# Altium integrated library Silicon Labs Isolation and Power.IntLib: 421 symbols (part 19 of 19)
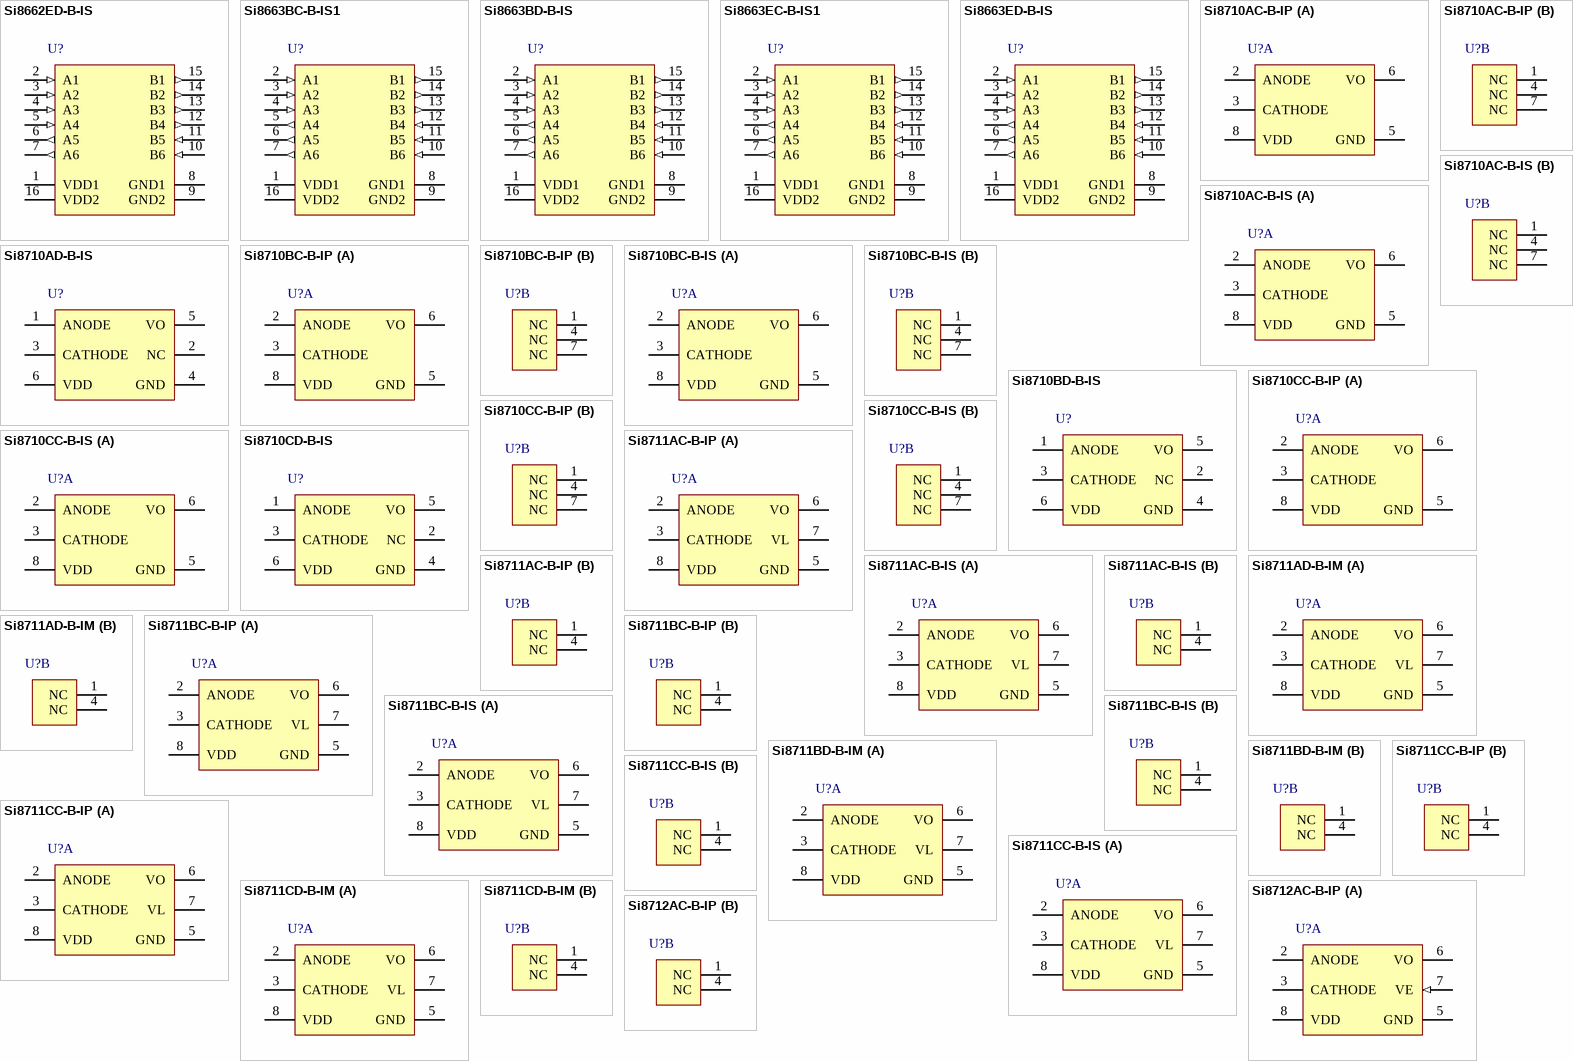
[diagram p32: symbols Si8662ED-B-IS to Si8712AC-B-IP]

## Si8712AC-B-IP
designator U?
LED Emulator Input, Open Collector Output Isolator, 15 Mbps, 3.75 kVRMS Isolation Rating, -40 to 125 degC, 8-pin SOP; Manufacturer: Silicon Labs; PartNumber: Si8712AC-B-IP; 10kV surge: TRUE; AEC-Q100: FALSE; Channel Type: Unidirectional; Isolation Rating (kV): 3.75; Maximum Data Rate (Mbps): 15; Maximum Propagation Delay (ns): 60; Sub-Family: Isolators; DatasheetVersion: Rev. 0.5; PackageReference: DIP8; PackageDescription: 8-Pin Dual In-Line Package, Body 9.65 x 6.35 mm, Pitch 2.54 mm; Supplier 1: Digi-Key; Supplier Part Number 1: 336-2368-ND; Supplier 2: Mouser; Supplier Part Number 2: 634-SI8712AC-B-IP; Enable Control: TRUE; Mounting Technology: Surface Mount; ComponentLink1Description: Manufacturer URL; ComponentLink1URL: http://www.silabs.com/; ComponentLink2Description: Datasheet; ComponentLink2URL: http://www.silabs.com/Support%20Documents/TechnicalDocs/Si87xx.pdf; ComponentLink3Description: Package Specification; ComponentLink3URL: http://www.silabs.com/Support%20Documents/TechnicalDocs/Si826x.pdf
footprint SLAB-DIP8_N (SOP, 8-Leads, Body 9.9x6.6mm, Pitch 2.54mm, IPC Medium Density)
footprint SLAB-DIP8_L (SOP, 8-Leads, Body 9.9x6.6mm, Pitch 2.54mm, IPC High Density)
footprint SLAB-DIP8_M (SOP, 8-Leads, Body 9.9x6.6mm, Pitch 2.54mm, IPC Low Density)
part A pins: 2 ANODE "Anode of LED emulator. VO follows the signal applied to this input with respect to the CATHODE input.", 3 CATHODE "Cathode of LED emulator. VO follows the signal applied to ANODE with respect to this input.", 5 GND (power) "External MOSFET source connection and ground reference for VDD. This terminal is typically connected to ground but may be tied to a negative or positive voltage.", 6 VO (oc) "Output signal.", 7 VE (in) "Output enable.", 8 VDD (power) "Output-side power supply input referenced to GND (30 V max)."
part B pins: 1 NC "No connect.", 4 NC "No connect."

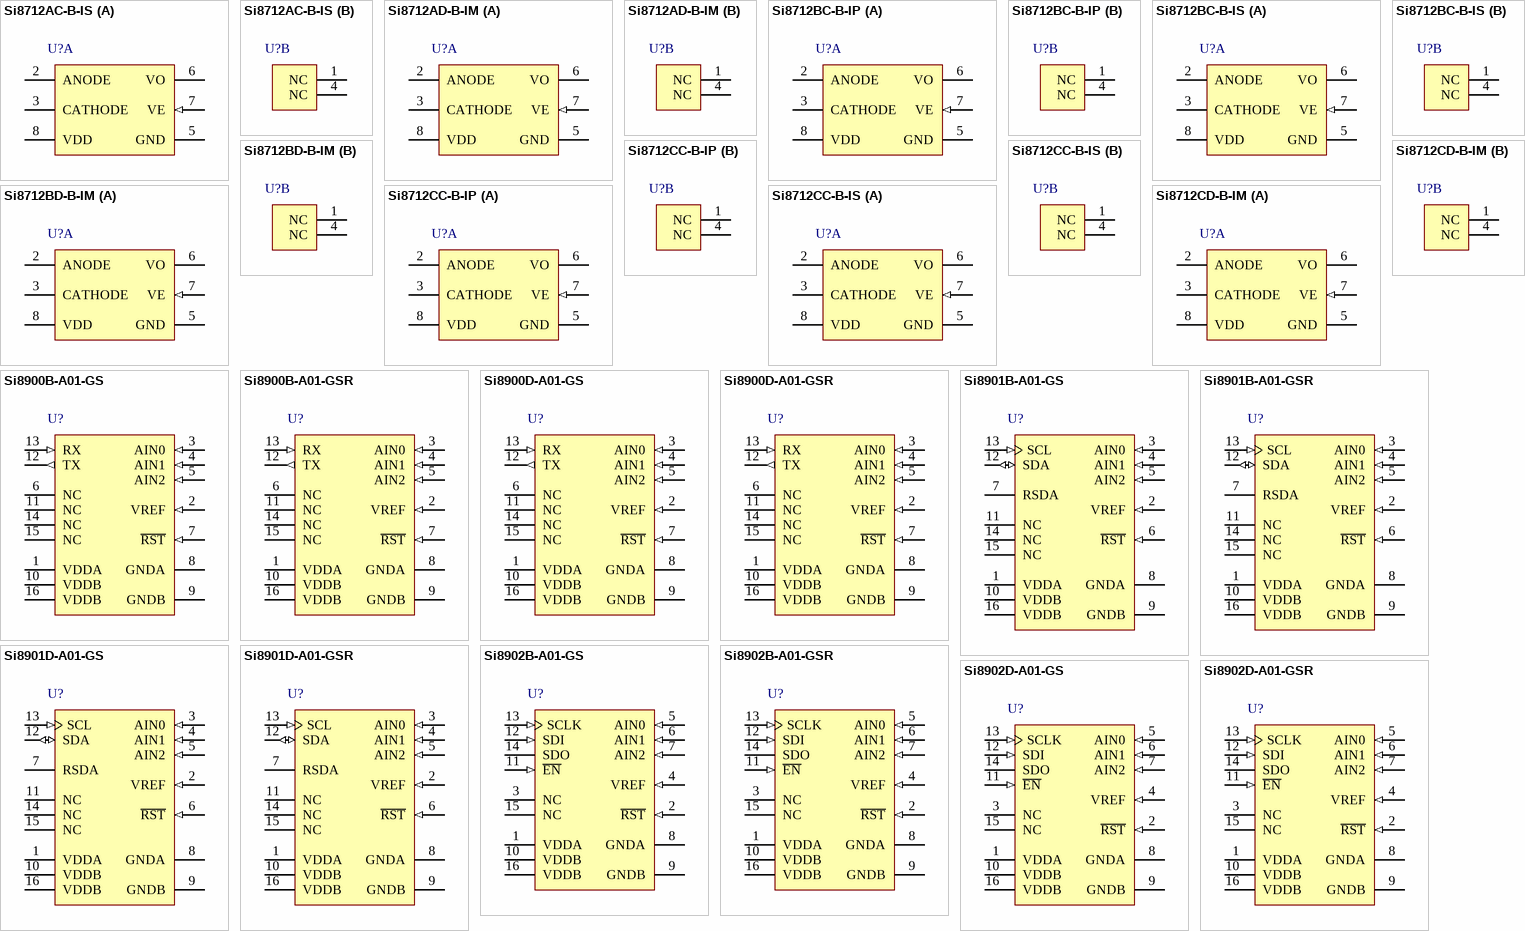
[diagram p14: symbols Si8712AC-B-IS to Si8902D-A01-GSR]

## Si8712AC-B-IS
designator U?
LED Emulator Input, Open Collector Output Isolator, 15 Mbps, 3.75 kVRMS Isolation Rating, -40 to 125 degC, 8-pin SOIC; Manufacturer: Silicon Labs; PartNumber: Si8712AC-B-IS; 10kV surge: TRUE; AEC-Q100: FALSE; Channel Type: Unidirectional; Isolation Rating (kV): 3.75; Maximum Data Rate (Mbps): 15; Maximum Propagation Delay (ns): 60; Sub-Family: Isolators; DatasheetVersion: Rev. 0.5; PackageReference: SOIC-8-NB; PackageDescription: 8-Pin Narrow Body Plastic Small Outline, Body 4.9 x 3.9 mm, Pitch 1.27 mm; Supplier 1: Digi-Key; Supplier Part Number 1: 336-2383-ND; Supplier 2: Mouser; Supplier Part Number 2: 634-SI8712AC-B-IS; Enable Control: TRUE; Mounting Technology: Surface Mount; ComponentLink1Description: Manufacturer URL; ComponentLink1URL: http://www.silabs.com/; ComponentLink2Description: Datasheet; ComponentLink2URL: http://www.silabs.com/Support%20Documents/TechnicalDocs/Si87xx.pdf; ComponentLink3Description: Package Specification; ComponentLink3URL: http://www.silabs.com/Support%20Documents/TechnicalDocs/Si8220-21.pdf
footprint SLAB-SOIC-8-NB_N (SOIC, 8-Leads, Body 5x4mm, Pitch 1.27mm, IPC Medium Density)
footprint SLAB-SOIC-8-NB_L (SOIC, 8-Leads, Body 5x4mm, Pitch 1.27mm, IPC High Density)
footprint SLAB-SOIC-8-NB_M (SOIC, 8-Leads, Body 5x4mm, Pitch 1.27mm, IPC Low Density)
part A pins: 2 ANODE "Anode of LED emulator. VO follows the signal applied to this input with respect to the CATHODE input.", 3 CATHODE "Cathode of LED emulator. VO follows the signal applied to ANODE with respect to this input.", 5 GND (power) "External MOSFET source connection and ground reference for VDD. This terminal is typically connected to ground but may be tied to a negative or positive voltage.", 6 VO (oc) "Output signal.", 7 VE (in) "Output enable.", 8 VDD (power) "Output-side power supply input referenced to GND (30 V max)."
part B pins: 1 NC "No connect.", 4 NC "No connect."

## Si8712AD-B-IM
designator U?
LED Emulator Input, Open Collector Output Isolator, 15 Mbps, 5 kVRMS Isolation Rating, -40 to 125 degC, 8-pin LGA; Manufacturer: Silicon Labs; PartNumber: Si8712AD-B-IM; 10kV surge: TRUE; AEC-Q100: FALSE; Channel Type: Unidirectional; Isolation Rating (kV): 5; Maximum Data Rate (Mbps): 15; Maximum Propagation Delay (ns): 60; Sub-Family: Isolators; DatasheetVersion: Rev. 0.5; PackageReference: LGA8; PackageDescription: 8-Pin Land Grid Array, Body 10 x 12.5 mm, Pitch 2.54 mm; Supplier 1: Digi-Key; Supplier Part Number 1: 336-2372-ND; Supplier 2: Mouser; Supplier Part Number 2: 634-SI8712AD-B-IM; Enable Control: TRUE; Mounting Technology: Surface Mount; Code_IPC: J-STD-020; ComponentLink1Description: Manufacturer URL; ComponentLink1URL: http://www.silabs.com/; ComponentLink2Description: Datasheet; ComponentLink2URL: http://www.silabs.com/Support%20Documents/TechnicalDocs/Si87xx.pdf; ComponentLink3Description: Package Specification; ComponentLink3URL: http://www.silabs.com/Support%20Documents/TechnicalDocs/Si826x.pdf
footprint SLAB-LGA8_V (LGA, 8-Leads, Body 12.5x10mm, Pitch 2.54mm)
part A pins: 2 ANODE "Anode of LED emulator. VO follows the signal applied to this input with respect to the CATHODE input.", 3 CATHODE "Cathode of LED emulator. VO follows the signal applied to ANODE with respect to this input.", 5 GND (power) "External MOSFET source connection and ground reference for VDD. This terminal is typically connected to ground but may be tied to a negative or positive voltage.", 6 VO (oc) "Output signal.", 7 VE (in) "Output enable.", 8 VDD (power) "Output-side power supply input referenced to GND (30 V max)."
part B pins: 1 NC "No connect.", 4 NC "No connect."

## Si8712BC-B-IP
designator U?
LED Emulator Input, Open Collector Output Isolator, 15 Mbps, 3.75 kVRMS Isolation Rating, -40 to 125 degC, 8-pin SOP; Manufacturer: Silicon Labs; PartNumber: Si8712BC-B-IP; 10kV surge: TRUE; AEC-Q100: FALSE; Channel Type: Unidirectional; Isolation Rating (kV): 3.75; Maximum Data Rate (Mbps): 15; Maximum Propagation Delay (ns): 60; Sub-Family: Isolators; DatasheetVersion: Rev. 0.5; PackageReference: DIP8; PackageDescription: 8-Pin Dual In-Line Package, Body 9.65 x 6.35 mm, Pitch 2.54 mm; Supplier 1: Digi-Key; Supplier Part Number 1: 336-2379-ND; Supplier 2: Mouser; Supplier Part Number 2: 634-SI8712BC-B-IP; Enable Control: TRUE; Mounting Technology: Surface Mount; ComponentLink1Description: Manufacturer URL; ComponentLink1URL: http://www.silabs.com/; ComponentLink2Description: Datasheet; ComponentLink2URL: http://www.silabs.com/Support%20Documents/TechnicalDocs/Si87xx.pdf; ComponentLink3Description: Package Specification; ComponentLink3URL: http://www.silabs.com/Support%20Documents/TechnicalDocs/Si826x.pdf
footprint SLAB-DIP8_N (SOP, 8-Leads, Body 9.9x6.6mm, Pitch 2.54mm, IPC Medium Density)
footprint SLAB-DIP8_L (SOP, 8-Leads, Body 9.9x6.6mm, Pitch 2.54mm, IPC High Density)
footprint SLAB-DIP8_M (SOP, 8-Leads, Body 9.9x6.6mm, Pitch 2.54mm, IPC Low Density)
part A pins: 2 ANODE "Anode of LED emulator. VO follows the signal applied to this input with respect to the CATHODE input.", 3 CATHODE "Cathode of LED emulator. VO follows the signal applied to ANODE with respect to this input.", 5 GND (power) "External MOSFET source connection and ground reference for VDD. This terminal is typically connected to ground but may be tied to a negative or positive voltage.", 6 VO (oc) "Output signal.", 7 VE (in) "Output enable.", 8 VDD (power) "Output-side power supply input referenced to GND (30 V max)."
part B pins: 1 NC "No connect.", 4 NC "No connect."

## Si8712BC-B-IS
designator U?
LED Emulator Input, Open Collector Output Isolator, 15 Mbps, 3.75 kVRMS Isolation Rating, -40 to 125 degC, 8-pin SOIC; Manufacturer: Silicon Labs; PartNumber: Si8712BC-B-IS; 10kV surge: TRUE; AEC-Q100: FALSE; Channel Type: Unidirectional; Isolation Rating (kV): 3.75; Maximum Data Rate (Mbps): 15; Maximum Propagation Delay (ns): 60; Sub-Family: Isolators; DatasheetVersion: Rev. 0.5; PackageReference: SOIC-8-NB; PackageDescription: 8-Pin Narrow Body Plastic Small Outline, Body 4.9 x 3.9 mm, Pitch 1.27 mm; Supplier 1: Digi-Key; Supplier Part Number 1: 336-2370-ND; Supplier 2: Mouser; Supplier Part Number 2: 634-SI8712BC-B-IS; Enable Control: TRUE; Mounting Technology: Surface Mount; ComponentLink1Description: Manufacturer URL; ComponentLink1URL: http://www.silabs.com/; ComponentLink2Description: Datasheet; ComponentLink2URL: http://www.silabs.com/Support%20Documents/TechnicalDocs/Si87xx.pdf; ComponentLink3Description: Package Specification; ComponentLink3URL: http://www.silabs.com/Support%20Documents/TechnicalDocs/Si8220-21.pdf
footprint SLAB-SOIC-8-NB_N (SOIC, 8-Leads, Body 5x4mm, Pitch 1.27mm, IPC Medium Density)
footprint SLAB-SOIC-8-NB_L (SOIC, 8-Leads, Body 5x4mm, Pitch 1.27mm, IPC High Density)
footprint SLAB-SOIC-8-NB_M (SOIC, 8-Leads, Body 5x4mm, Pitch 1.27mm, IPC Low Density)
part A pins: 2 ANODE "Anode of LED emulator. VO follows the signal applied to this input with respect to the CATHODE input.", 3 CATHODE "Cathode of LED emulator. VO follows the signal applied to ANODE with respect to this input.", 5 GND (power) "External MOSFET source connection and ground reference for VDD. This terminal is typically connected to ground but may be tied to a negative or positive voltage.", 6 VO (oc) "Output signal.", 7 VE (in) "Output enable.", 8 VDD (power) "Output-side power supply input referenced to GND (30 V max)."
part B pins: 1 NC "No connect.", 4 NC "No connect."

## Si8712BD-B-IM
designator U?
LED Emulator Input, Open Collector Output Isolator, 15 Mbps, 5 kVRMS Isolation Rating, -40 to 125 degC, 8-pin LGA; Manufacturer: Silicon Labs; PartNumber: Si8712BD-B-IM; 10kV surge: TRUE; AEC-Q100: FALSE; Channel Type: Unidirectional; Isolation Rating (kV): 5; Maximum Data Rate (Mbps): 15; Maximum Propagation Delay (ns): 60; Sub-Family: Isolators; DatasheetVersion: Rev. 0.5; PackageReference: LGA8; PackageDescription: 8-Pin Land Grid Array, Body 10 x 12.5 mm, Pitch 2.54 mm; Supplier 1: Digi-Key; Supplier Part Number 1: 336-2358-ND; Supplier 2: Mouser; Supplier Part Number 2: 634-SI8712BD-B-IM; Enable Control: TRUE; Mounting Technology: Surface Mount; Code_IPC: J-STD-020; ComponentLink1Description: Manufacturer URL; ComponentLink1URL: http://www.silabs.com/; ComponentLink2Description: Datasheet; ComponentLink2URL: http://www.silabs.com/Support%20Documents/TechnicalDocs/Si87xx.pdf; ComponentLink3Description: Package Specification; ComponentLink3URL: http://www.silabs.com/Support%20Documents/TechnicalDocs/Si826x.pdf
footprint SLAB-LGA8_V (LGA, 8-Leads, Body 12.5x10mm, Pitch 2.54mm)
part A pins: 2 ANODE "Anode of LED emulator. VO follows the signal applied to this input with respect to the CATHODE input.", 3 CATHODE "Cathode of LED emulator. VO follows the signal applied to ANODE with respect to this input.", 5 GND (power) "External MOSFET source connection and ground reference for VDD. This terminal is typically connected to ground but may be tied to a negative or positive voltage.", 6 VO (oc) "Output signal.", 7 VE (in) "Output enable.", 8 VDD (power) "Output-side power supply input referenced to GND (30 V max)."
part B pins: 1 NC "No connect.", 4 NC "No connect."

## Si8712CC-B-IP
designator U?
LED Emulator Input, Open Collector Output Isolator, 1 Mbps, 3.75 kVRMS Isolation Rating, -40 to 125 degC, 8-pin SOP; Manufacturer: Silicon Labs; PartNumber: Si8712CC-B-IP; 10kV surge: TRUE; AEC-Q100: FALSE; Channel Type: Unidirectional; Isolation Rating (kV): 3.75; Maximum Data Rate (Mbps): 1; Maximum Propagation Delay (ns): 60; Sub-Family: Isolators; DatasheetVersion: Rev. 0.5; PackageReference: DIP8; PackageDescription: 8-Pin Dual In-Line Package, Body 9.65 x 6.35 mm, Pitch 2.54 mm; Supplier 1: Digi-Key; Supplier Part Number 1: 336-2387-ND; Supplier 2: Mouser; Supplier Part Number 2: 634-SI8712CC-B-IP; Enable Control: TRUE; Mounting Technology: Surface Mount; ComponentLink1Description: Manufacturer URL; ComponentLink1URL: http://www.silabs.com/; ComponentLink2Description: Datasheet; ComponentLink2URL: http://www.silabs.com/Support%20Documents/TechnicalDocs/Si87xx.pdf; ComponentLink3Description: Package Specification; ComponentLink3URL: http://www.silabs.com/Support%20Documents/TechnicalDocs/Si826x.pdf
footprint SLAB-DIP8_N (SOP, 8-Leads, Body 9.9x6.6mm, Pitch 2.54mm, IPC Medium Density)
footprint SLAB-DIP8_L (SOP, 8-Leads, Body 9.9x6.6mm, Pitch 2.54mm, IPC High Density)
footprint SLAB-DIP8_M (SOP, 8-Leads, Body 9.9x6.6mm, Pitch 2.54mm, IPC Low Density)
part A pins: 2 ANODE "Anode of LED emulator. VO follows the signal applied to this input with respect to the CATHODE input.", 3 CATHODE "Cathode of LED emulator. VO follows the signal applied to ANODE with respect to this input.", 5 GND (power) "External MOSFET source connection and ground reference for VDD. This terminal is typically connected to ground but may be tied to a negative or positive voltage.", 6 VO (oc) "Output signal.", 7 VE (in) "Output enable.", 8 VDD (power) "Output-side power supply input referenced to GND (30 V max)."
part B pins: 1 NC "No connect.", 4 NC "No connect."

## Si8712CC-B-IS
designator U?
LED Emulator Input, Open Collector Output Isolator, 1 Mbps, 3.75 kVRMS Isolation Rating, -40 to 125 degC, 8-pin SOIC; Manufacturer: Silicon Labs; PartNumber: Si8712CC-B-IS; 10kV surge: TRUE; AEC-Q100: FALSE; Channel Type: Unidirectional; Isolation Rating (kV): 3.75; Maximum Data Rate (Mbps): 1; Maximum Propagation Delay (ns): 60; Sub-Family: Isolators; DatasheetVersion: Rev. 0.5; PackageReference: SOIC-8-NB; PackageDescription: 8-Pin Narrow Body Plastic Small Outline, Body 4.9 x 3.9 mm, Pitch 1.27 mm; Supplier 1: Digi-Key; Supplier Part Number 1: 336-2380-ND; Supplier 2: Mouser; Supplier Part Number 2: 634-SI8712CC-B-IS; Enable Control: TRUE; Mounting Technology: Surface Mount; ComponentLink1Description: Manufacturer URL; ComponentLink1URL: http://www.silabs.com/; ComponentLink2Description: Datasheet; ComponentLink2URL: http://www.silabs.com/Support%20Documents/TechnicalDocs/Si87xx.pdf; ComponentLink3Description: Package Specification; ComponentLink3URL: http://www.silabs.com/Support%20Documents/TechnicalDocs/Si8220-21.pdf
footprint SLAB-SOIC-8-NB_N (SOIC, 8-Leads, Body 5x4mm, Pitch 1.27mm, IPC Medium Density)
footprint SLAB-SOIC-8-NB_L (SOIC, 8-Leads, Body 5x4mm, Pitch 1.27mm, IPC High Density)
footprint SLAB-SOIC-8-NB_M (SOIC, 8-Leads, Body 5x4mm, Pitch 1.27mm, IPC Low Density)
part A pins: 2 ANODE "Anode of LED emulator. VO follows the signal applied to this input with respect to the CATHODE input.", 3 CATHODE "Cathode of LED emulator. VO follows the signal applied to ANODE with respect to this input.", 5 GND (power) "External MOSFET source connection and ground reference for VDD. This terminal is typically connected to ground but may be tied to a negative or positive voltage.", 6 VO (oc) "Output signal.", 7 VE (in) "Output enable.", 8 VDD (power) "Output-side power supply input referenced to GND (30 V max)."
part B pins: 1 NC "No connect.", 4 NC "No connect."

## Si8712CD-B-IM
designator U?
LED Emulator Input, Open Collector Output Isolator, 1 Mbps, 5 kVRMS Isolation Rating, -40 to 125 degC, 8-pin LGA; Manufacturer: Silicon Labs; PartNumber: Si8712CD-B-IM; 10kV surge: TRUE; AEC-Q100: FALSE; Channel Type: Unidirectional; Isolation Rating (kV): 5; Maximum Data Rate (Mbps): 1; Maximum Propagation Delay (ns): 60; Sub-Family: Isolators; DatasheetVersion: Rev. 0.5; PackageReference: LGA8; PackageDescription: 8-Pin Land Grid Array, Body 10 x 12.5 mm, Pitch 2.54 mm; Supplier 1: Digi-Key; Supplier Part Number 1: 336-2362-ND; Supplier 2: Mouser; Supplier Part Number 2: 634-SI8712CD-B-IM; Enable Control: TRUE; Mounting Technology: Surface Mount; Code_IPC: J-STD-020; ComponentLink1Description: Manufacturer URL; ComponentLink1URL: http://www.silabs.com/; ComponentLink2Description: Datasheet; ComponentLink2URL: http://www.silabs.com/Support%20Documents/TechnicalDocs/Si87xx.pdf; ComponentLink3Description: Package Specification; ComponentLink3URL: http://www.silabs.com/Support%20Documents/TechnicalDocs/Si826x.pdf
footprint SLAB-LGA8_V (LGA, 8-Leads, Body 12.5x10mm, Pitch 2.54mm)
part A pins: 2 ANODE "Anode of LED emulator. VO follows the signal applied to this input with respect to the CATHODE input.", 3 CATHODE "Cathode of LED emulator. VO follows the signal applied to ANODE with respect to this input.", 5 GND (power) "External MOSFET source connection and ground reference for VDD. This terminal is typically connected to ground but may be tied to a negative or positive voltage.", 6 VO (oc) "Output signal.", 7 VE (in) "Output enable.", 8 VDD (power) "Output-side power supply input referenced to GND (30 V max)."
part B pins: 1 NC "No connect.", 4 NC "No connect."

## Si8900B-A01-GS
designator U?
Isolated Monitoring ADC, 10 A Full Scale Current, -40 to 85 degC, 16-pin SOIC; Manufacturer: Silicon Labs; PartNumber: Si8900B-A01-GS; Full Scale Current: 10 A; Initial Accuracy: 0.1%; Isolation Rating: 2.5 kV rms; Output Mode: UART; Sub-Family: Current Sensors; DatasheetVersion: Rev. 1.1; PackageReference: SOIC-16-WB; PackageDescription: 16-Pin Wide Body Plastic Small Outline, Body 10.3 x 7.5 mm, Pitch 1.27 mm; Supplier 1: Digi-Key; Supplier Part Number 1: 336-2193-5-ND; Supplier 2: Mouser; Supplier Part Number 2: 634-SI8900B-A01-GS; Mounting Technology: Surface Mount; Code_JEDEC: MS-013; ComponentLink1Description: Manufacturer URL; ComponentLink1URL: http://www.silabs.com/; ComponentLink2Description: Datasheet; ComponentLink2URL: http://www.silabs.com/Support Documents/TechnicalDocs/Si8900-1-2.pdf; ComponentLink3Description: Package Specification; ComponentLink3URL: https://www.silabs.com/Support%20Documents/TechnicalDocs/Si823x.pdf
footprint SLAB-SOIC-16-WB_N (SOIC, 16-Leads, Body 10.3x7.5mm, Pitch 1.27mm, IPC Medium Density)
footprint SLAB-SOIC-16-WB_L (SOIC, 16-Leads, Body 10.3x7.5mm, Pitch 1.27mm, IPC High Density)
footprint SLAB-SOIC-16-WB_M (SOIC, 16-Leads, Body 10.3x7.5mm, Pitch 1.27mm, IPC Low Density)
pins: 1 VDDA (power) "Input side VDD bias voltage (typically 3.3 V)", 2 VREF (in) "External voltage reference input.", 3 AIN0 (in) "ADC analog input channel 0.", 4 AIN1 (in) "ADC analog input channel 1.", 5 AIN2 (in) "ADC analog input channel 2.", 6 NC "No Connection.", 7 ~{RST} (in) "Active low reset.", 8 GNDA (power) "Input side ground", 9 GNDB (power) "Output side ground", 10 VDDB (power) "Output side VDD bias voltage (2.7 V to 5.5 V)", 11 NC "No Connection.", 12 TX (out) "UART unidirectional transmit output.", 13 RX (in) "UART unidirectional receive input.", 14 NC "No Connection.", 15 NC "No Connection.", 16 VDDB (power) "Output side VDD bias voltage (2.7 V to 5.5 V)."

## Si8900B-A01-GSR
designator U?
Isolated Monitoring ADC, 10 A Full Scale Current, -40 to 85 degC, 16-pin SOIC, Tape and Reel; Manufacturer: Silicon Labs; PartNumber: Si8900B-A01-GSR; Full Scale Current: 10 A; Initial Accuracy: 0.1%; Isolation Rating: 2.5 kV rms; Output Mode: UART; Sub-Family: Current Sensors; DatasheetVersion: Rev. 1.1; PackageReference: SOIC-16-WB; PackageDescription: 16-Pin Wide Body Plastic Small Outline, Body 10.3 x 7.5 mm, Pitch 1.27 mm; Supplier 1: Digi-Key; Supplier Part Number 1: SI8900B-A01-GSR-ND; Supplier 2: Mouser; Supplier Part Number 2: 634-SI8900B-A01GSR; Packing: Tape and Reel; Mounting Technology: Surface Mount; Code_JEDEC: MS-013; ComponentLink1Description: Manufacturer URL; ComponentLink1URL: http://www.silabs.com/; ComponentLink2Description: Datasheet; ComponentLink2URL: http://www.silabs.com/Support Documents/TechnicalDocs/Si8900-1-2.pdf; ComponentLink3Description: Package Specification; ComponentLink3URL: https://www.silabs.com/Support%20Documents/TechnicalDocs/Si823x.pdf
footprint SLAB-SOIC-16-WB_N (SOIC, 16-Leads, Body 10.3x7.5mm, Pitch 1.27mm, IPC Medium Density)
footprint SLAB-SOIC-16-WB_L (SOIC, 16-Leads, Body 10.3x7.5mm, Pitch 1.27mm, IPC High Density)
footprint SLAB-SOIC-16-WB_M (SOIC, 16-Leads, Body 10.3x7.5mm, Pitch 1.27mm, IPC Low Density)
pins: 1 VDDA (power) "Input side VDD bias voltage (typically 3.3 V)", 2 VREF (in) "External voltage reference input.", 3 AIN0 (in) "ADC analog input channel 0.", 4 AIN1 (in) "ADC analog input channel 1.", 5 AIN2 (in) "ADC analog input channel 2.", 6 NC "No Connection.", 7 ~{RST} (in) "Active low reset.", 8 GNDA (power) "Input side ground", 9 GNDB (power) "Output side ground", 10 VDDB (power) "Output side VDD bias voltage (2.7 V to 5.5 V)", 11 NC "No Connection.", 12 TX (out) "UART unidirectional transmit output.", 13 RX (in) "UART unidirectional receive input.", 14 NC "No Connection.", 15 NC "No Connection.", 16 VDDB (power) "Output side VDD bias voltage (2.7 V to 5.5 V)."

## Si8900D-A01-GS
designator U?
Isolated Monitoring ADC, 10 A Full Scale Current, -40 to 85 degC, 16-pin SOIC; Manufacturer: Silicon Labs; PartNumber: Si8900D-A01-GS; Full Scale Current: 10 A; Initial Accuracy: 0.1%; Isolation Rating: 5 kV rms; Output Mode: UART; Sub-Family: Current Sensors; DatasheetVersion: Rev. 1.1; PackageReference: SOIC-16-WB; PackageDescription: 16-Pin Wide Body Plastic Small Outline, Body 10.3 x 7.5 mm, Pitch 1.27 mm; Supplier 1: Digi-Key; Supplier Part Number 1: 336-2194-5-ND; Supplier 2: Mouser; Supplier Part Number 2: 634-SI8900D-A01-GS; Mounting Technology: Surface Mount; Code_JEDEC: MS-013; ComponentLink1Description: Manufacturer URL; ComponentLink1URL: http://www.silabs.com/; ComponentLink2Description: Datasheet; ComponentLink2URL: http://www.silabs.com/Support Documents/TechnicalDocs/Si8900-1-2.pdf; ComponentLink3Description: Package Specification; ComponentLink3URL: https://www.silabs.com/Support%20Documents/TechnicalDocs/Si823x.pdf
footprint SLAB-SOIC-16-WB_N (SOIC, 16-Leads, Body 10.3x7.5mm, Pitch 1.27mm, IPC Medium Density)
footprint SLAB-SOIC-16-WB_L (SOIC, 16-Leads, Body 10.3x7.5mm, Pitch 1.27mm, IPC High Density)
footprint SLAB-SOIC-16-WB_M (SOIC, 16-Leads, Body 10.3x7.5mm, Pitch 1.27mm, IPC Low Density)
pins: 1 VDDA (power) "Input side VDD bias voltage (typically 3.3 V)", 2 VREF (in) "External voltage reference input.", 3 AIN0 (in) "ADC analog input channel 0.", 4 AIN1 (in) "ADC analog input channel 1.", 5 AIN2 (in) "ADC analog input channel 2.", 6 NC "No Connection.", 7 ~{RST} (in) "Active low reset.", 8 GNDA (power) "Input side ground", 9 GNDB (power) "Output side ground", 10 VDDB (power) "Output side VDD bias voltage (2.7 V to 5.5 V)", 11 NC "No Connection.", 12 TX (out) "UART unidirectional transmit output.", 13 RX (in) "UART unidirectional receive input.", 14 NC "No Connection.", 15 NC "No Connection.", 16 VDDB (power) "Output side VDD bias voltage (2.7 V to 5.5 V)."

## Si8900D-A01-GSR
designator U?
Isolated Monitoring ADC, 10 A Full Scale Current, -40 to 85 degC, 16-pin SOIC, Tape and Reel; Manufacturer: Silicon Labs; PartNumber: Si8900D-A01-GSR; Full Scale Current: 10 A; Initial Accuracy: 0.1%; Isolation Rating: 5 kV rms; Output Mode: UART; Sub-Family: Current Sensors; DatasheetVersion: Rev. 1.1; PackageReference: SOIC-16-WB; PackageDescription: 16-Pin Wide Body Plastic Small Outline, Body 10.3 x 7.5 mm, Pitch 1.27 mm; Supplier 1: Digi-Key; Supplier Part Number 1: SI8900D-A01-GSR-ND; Supplier 2: Mouser; Supplier Part Number 2: 634-SI8900D-A01-GSR; Packing: Tape and Reel; Mounting Technology: Surface Mount; Code_JEDEC: MS-013; ComponentLink1Description: Manufacturer URL; ComponentLink1URL: http://www.silabs.com/; ComponentLink2Description: Datasheet; ComponentLink2URL: http://www.silabs.com/Support Documents/TechnicalDocs/Si8900-1-2.pdf; ComponentLink3Description: Package Specification; ComponentLink3URL: https://www.silabs.com/Support%20Documents/TechnicalDocs/Si823x.pdf
footprint SLAB-SOIC-16-WB_N (SOIC, 16-Leads, Body 10.3x7.5mm, Pitch 1.27mm, IPC Medium Density)
footprint SLAB-SOIC-16-WB_L (SOIC, 16-Leads, Body 10.3x7.5mm, Pitch 1.27mm, IPC High Density)
footprint SLAB-SOIC-16-WB_M (SOIC, 16-Leads, Body 10.3x7.5mm, Pitch 1.27mm, IPC Low Density)
pins: 1 VDDA (power) "Input side VDD bias voltage (typically 3.3 V)", 2 VREF (in) "External voltage reference input.", 3 AIN0 (in) "ADC analog input channel 0.", 4 AIN1 (in) "ADC analog input channel 1.", 5 AIN2 (in) "ADC analog input channel 2.", 6 NC "No Connection.", 7 ~{RST} (in) "Active low reset.", 8 GNDA (power) "Input side ground", 9 GNDB (power) "Output side ground", 10 VDDB (power) "Output side VDD bias voltage (2.7 V to 5.5 V)", 11 NC "No Connection.", 12 TX (out) "UART unidirectional transmit output.", 13 RX (in) "UART unidirectional receive input.", 14 NC "No Connection.", 15 NC "No Connection.", 16 VDDB (power) "Output side VDD bias voltage (2.7 V to 5.5 V)."

## Si8901B-A01-GS
designator U?
Isolated Monitoring ADC, 10 A Full Scale Current, -40 to 85 degC, 16-pin SOIC; Manufacturer: Silicon Labs; PartNumber: Si8901B-A01-GS; Full Scale Current: 10 A; Initial Accuracy: 0.1%; Isolation Rating: 2.5 kV rms; Output Mode: I2C/SMBus; Sub-Family: Current Sensors; DatasheetVersion: Rev. 1.1; PackageReference: SOIC-16-WB; PackageDescription: 16-Pin Wide Body Plastic Small Outline, Body 10.3 x 7.5 mm, Pitch 1.27 mm; Supplier 1: Digi-Key; Supplier Part Number 1: 336-2195-5-ND; Supplier 2: Mouser; Supplier Part Number 2: 634-SI8901B-A01-GS; Mounting Technology: Surface Mount; Code_JEDEC: MS-013; ComponentLink1Description: Manufacturer URL; ComponentLink1URL: http://www.silabs.com/; ComponentLink2Description: Datasheet; ComponentLink2URL: http://www.silabs.com/Support Documents/TechnicalDocs/Si8900-1-2.pdf; ComponentLink3Description: Package Specification; ComponentLink3URL: https://www.silabs.com/Support%20Documents/TechnicalDocs/Si823x.pdf
footprint SLAB-SOIC-16-WB_N (SOIC, 16-Leads, Body 10.3x7.5mm, Pitch 1.27mm, IPC Medium Density)
footprint SLAB-SOIC-16-WB_L (SOIC, 16-Leads, Body 10.3x7.5mm, Pitch 1.27mm, IPC High Density)
footprint SLAB-SOIC-16-WB_M (SOIC, 16-Leads, Body 10.3x7.5mm, Pitch 1.27mm, IPC Low Density)
pins: 1 VDDA (power) "Input side VDD bias voltage (typically 3.3 V)", 2 VREF (in) "External voltage reference input.", 3 AIN0 (in) "ADC analog input channel 0.", 4 AIN1 (in) "ADC analog input channel 1.", 5 AIN2 (in) "ADC analog input channel 2.", 6 ~{RST} (in) "Active low reset.", 7 RSDA "RSDA bias resistor (typically 5 kW).", 8 GNDA (power) "Input side ground", 9 GNDB (power) "Output side ground", 10 VDDB (power) "Output side VDD bias voltage (2.7 V to 5.5 V)", 11 NC "No Connection.", 12 SDA (io) "I2C Bidirectional data input/output.", 13 SCL (in) "I2C port unidirectional serial clock input.", 14 NC "No Connection.", 15 NC "No Connection.", 16 VDDB (power) "Output side VDD bias voltage (2.7 V to 5.5 V)."

## Si8901B-A01-GSR
designator U?
Isolated Monitoring ADC, 10 A Full Scale Current, -40 to 85 degC, 16-pin SOIC, Tape and Reel; Manufacturer: Silicon Labs; PartNumber: Si8901B-A01-GSR; Full Scale Current: 10 A; Initial Accuracy: 0.1%; Isolation Rating: 2.5 kV rms; Output Mode: I2C/SMBus; Sub-Family: Current Sensors; DatasheetVersion: Rev. 1.1; PackageReference: SOIC-16-WB; PackageDescription: 16-Pin Wide Body Plastic Small Outline, Body 10.3 x 7.5 mm, Pitch 1.27 mm; Supplier 1: Digi-Key; Supplier Part Number 1: SI8901B-A01-GSR-ND; Supplier 2: Mouser; Supplier Part Number 2: 634-SI8901B-A01GSR; Packing: Tape and Reel; Mounting Technology: Surface Mount; Code_JEDEC: MS-013; ComponentLink1Description: Manufacturer URL; ComponentLink1URL: http://www.silabs.com/; ComponentLink2Description: Datasheet; ComponentLink2URL: http://www.silabs.com/Support Documents/TechnicalDocs/Si8900-1-2.pdf; ComponentLink3Description: Package Specification; ComponentLink3URL: https://www.silabs.com/Support%20Documents/TechnicalDocs/Si823x.pdf
footprint SLAB-SOIC-16-WB_N (SOIC, 16-Leads, Body 10.3x7.5mm, Pitch 1.27mm, IPC Medium Density)
footprint SLAB-SOIC-16-WB_L (SOIC, 16-Leads, Body 10.3x7.5mm, Pitch 1.27mm, IPC High Density)
footprint SLAB-SOIC-16-WB_M (SOIC, 16-Leads, Body 10.3x7.5mm, Pitch 1.27mm, IPC Low Density)
pins: 1 VDDA (power) "Input side VDD bias voltage (typically 3.3 V)", 2 VREF (in) "External voltage reference input.", 3 AIN0 (in) "ADC analog input channel 0.", 4 AIN1 (in) "ADC analog input channel 1.", 5 AIN2 (in) "ADC analog input channel 2.", 6 ~{RST} (in) "Active low reset.", 7 RSDA "RSDA bias resistor (typically 5 kW).", 8 GNDA (power) "Input side ground", 9 GNDB (power) "Output side ground", 10 VDDB (power) "Output side VDD bias voltage (2.7 V to 5.5 V)", 11 NC "No Connection.", 12 SDA (io) "I2C Bidirectional data input/output.", 13 SCL (in) "I2C port unidirectional serial clock input.", 14 NC "No Connection.", 15 NC "No Connection.", 16 VDDB (power) "Output side VDD bias voltage (2.7 V to 5.5 V)."

## Si8901D-A01-GS
designator U?
Isolated Monitoring ADC, 10 A Full Scale Current, -40 to 85 degC, 16-pin SOIC; Manufacturer: Silicon Labs; PartNumber: Si8901D-A01-GS; Full Scale Current: 10 A; Initial Accuracy: 0.1%; Isolation Rating: 5 kV rms; Output Mode: I2C/SMBus; Sub-Family: Current Sensors; DatasheetVersion: Rev. 1.1; PackageReference: SOIC-16-WB; PackageDescription: 16-Pin Wide Body Plastic Small Outline, Body 10.3 x 7.5 mm, Pitch 1.27 mm; Supplier 1: Digi-Key; Supplier Part Number 1: 336-2196-5-ND; Supplier 2: Mouser; Supplier Part Number 2: 634-SI8901D-A01-GS; Mounting Technology: Surface Mount; Code_JEDEC: MS-013; ComponentLink1Description: Manufacturer URL; ComponentLink1URL: http://www.silabs.com/; ComponentLink2Description: Datasheet; ComponentLink2URL: http://www.silabs.com/Support Documents/TechnicalDocs/Si8900-1-2.pdf; ComponentLink3Description: Package Specification; ComponentLink3URL: https://www.silabs.com/Support%20Documents/TechnicalDocs/Si823x.pdf
footprint SLAB-SOIC-16-WB_N (SOIC, 16-Leads, Body 10.3x7.5mm, Pitch 1.27mm, IPC Medium Density)
footprint SLAB-SOIC-16-WB_L (SOIC, 16-Leads, Body 10.3x7.5mm, Pitch 1.27mm, IPC High Density)
footprint SLAB-SOIC-16-WB_M (SOIC, 16-Leads, Body 10.3x7.5mm, Pitch 1.27mm, IPC Low Density)
pins: 1 VDDA (power) "Input side VDD bias voltage (typically 3.3 V)", 2 VREF (in) "External voltage reference input.", 3 AIN0 (in) "ADC analog input channel 0.", 4 AIN1 (in) "ADC analog input channel 1.", 5 AIN2 (in) "ADC analog input channel 2.", 6 ~{RST} (in) "Active low reset.", 7 RSDA "RSDA bias resistor (typically 5 kW).", 8 GNDA (power) "Input side ground", 9 GNDB (power) "Output side ground", 10 VDDB (power) "Output side VDD bias voltage (2.7 V to 5.5 V)", 11 NC "No Connection.", 12 SDA (io) "I2C Bidirectional data input/output.", 13 SCL (in) "I2C port unidirectional serial clock input.", 14 NC "No Connection.", 15 NC "No Connection.", 16 VDDB (power) "Output side VDD bias voltage (2.7 V to 5.5 V)."

## Si8901D-A01-GSR
designator U?
Isolated Monitoring ADC, 10 A Full Scale Current, -40 to 85 degC, 16-pin SOIC, Tape and Reel; Manufacturer: Silicon Labs; PartNumber: Si8901D-A01-GSR; Full Scale Current: 10 A; Initial Accuracy: 0.1%; Isolation Rating: 5 kV rms; Output Mode: I2C/SMBus; Sub-Family: Current Sensors; DatasheetVersion: Rev. 1.1; PackageReference: SOIC-16-WB; PackageDescription: 16-Pin Wide Body Plastic Small Outline, Body 10.3 x 7.5 mm, Pitch 1.27 mm; Supplier 1: Digi-Key; Supplier Part Number 1: SI8901D-A01-GSR-ND; Supplier 2: Mouser; Supplier Part Number 2: 634-SI8901D-A01-GSR; Packing: Tape and Reel; Mounting Technology: Surface Mount; Code_JEDEC: MS-013; ComponentLink1Description: Manufacturer URL; ComponentLink1URL: http://www.silabs.com/; ComponentLink2Description: Datasheet; ComponentLink2URL: http://www.silabs.com/Support Documents/TechnicalDocs/Si8900-1-2.pdf; ComponentLink3Description: Package Specification; ComponentLink3URL: https://www.silabs.com/Support%20Documents/TechnicalDocs/Si823x.pdf
footprint SLAB-SOIC-16-WB_N (SOIC, 16-Leads, Body 10.3x7.5mm, Pitch 1.27mm, IPC Medium Density)
footprint SLAB-SOIC-16-WB_L (SOIC, 16-Leads, Body 10.3x7.5mm, Pitch 1.27mm, IPC High Density)
footprint SLAB-SOIC-16-WB_M (SOIC, 16-Leads, Body 10.3x7.5mm, Pitch 1.27mm, IPC Low Density)
pins: 1 VDDA (power) "Input side VDD bias voltage (typically 3.3 V)", 2 VREF (in) "External voltage reference input.", 3 AIN0 (in) "ADC analog input channel 0.", 4 AIN1 (in) "ADC analog input channel 1.", 5 AIN2 (in) "ADC analog input channel 2.", 6 ~{RST} (in) "Active low reset.", 7 RSDA "RSDA bias resistor (typically 5 kW).", 8 GNDA (power) "Input side ground", 9 GNDB (power) "Output side ground", 10 VDDB (power) "Output side VDD bias voltage (2.7 V to 5.5 V)", 11 NC "No Connection.", 12 SDA (io) "I2C Bidirectional data input/output.", 13 SCL (in) "I2C port unidirectional serial clock input.", 14 NC "No Connection.", 15 NC "No Connection.", 16 VDDB (power) "Output side VDD bias voltage (2.7 V to 5.5 V)."

## Si8902B-A01-GS
designator U?
Isolated Monitoring ADC, 10 A Full Scale Current, -40 to 85 degC, 16-pin SOIC; Manufacturer: Silicon Labs; PartNumber: Si8902B-A01-GS; Full Scale Current: 10 A; Initial Accuracy: 0.1%; Isolation Rating: 2.5 kV rms; Output Mode: SPI; Sub-Family: Current Sensors; DatasheetVersion: Rev. 1.1; PackageReference: SOIC-16-WB; PackageDescription: 16-Pin Wide Body Plastic Small Outline, Body 10.3 x 7.5 mm, Pitch 1.27 mm; Supplier 1: Digi-Key; Supplier Part Number 1: 336-2197-5-ND; Supplier 2: Mouser; Supplier Part Number 2: 634-SI8902B-A01-GS; Mounting Technology: Surface Mount; Code_JEDEC: MS-013; ComponentLink1Description: Manufacturer URL; ComponentLink1URL: http://www.silabs.com/; ComponentLink2Description: Datasheet; ComponentLink2URL: http://www.silabs.com/Support Documents/TechnicalDocs/Si8900-1-2.pdf; ComponentLink3Description: Package Specification; ComponentLink3URL: https://www.silabs.com/Support%20Documents/TechnicalDocs/Si823x.pdf
footprint SLAB-SOIC-16-WB_N (SOIC, 16-Leads, Body 10.3x7.5mm, Pitch 1.27mm, IPC Medium Density)
footprint SLAB-SOIC-16-WB_L (SOIC, 16-Leads, Body 10.3x7.5mm, Pitch 1.27mm, IPC High Density)
footprint SLAB-SOIC-16-WB_M (SOIC, 16-Leads, Body 10.3x7.5mm, Pitch 1.27mm, IPC Low Density)
pins: 1 VDDA (power) "Input side VDD bias voltage (typically 3.3 V)", 2 ~{RST} (in) "Active low reset.", 3 NC "No Connection.", 4 VREF (in) "External voltage reference input.", 5 AIN0 (in) "ADC analog input channel 0.", 6 AIN1 (in) "ADC analog input channel 1.", 7 AIN2 (in) "ADC analog input channel 2.", 8 GNDA (power) "Input side ground", 9 GNDB (power) "Output side ground", 10 VDDB (power) "Output side VDD bias voltage (2.7 V to 5.5 V)", 11 ~{EN} (in) "SPI Port Enable.", 12 SDI (in) "SPI port Serial data in.", 13 SCLK (in) "SPI port unidirectional serial clock input.", 14 SDO (hiz) "SPI port Serial data out (SDO)", 15 NC "No Connection.", 16 VDDB (power) "Output side VDD bias voltage (2.7 V to 5.5 V)."

## Si8902B-A01-GSR
designator U?
Isolated Monitoring ADC, 10 A Full Scale Current, -40 to 85 degC, 16-pin SOIC, Tape and Reel; Manufacturer: Silicon Labs; PartNumber: Si8902B-A01-GSR; Full Scale Current: 10 A; Initial Accuracy: 0.1%; Isolation Rating: 2.5 kV rms; Output Mode: SPI; Sub-Family: Current Sensors; DatasheetVersion: Rev. 1.1; PackageReference: SOIC-16-WB; PackageDescription: 16-Pin Wide Body Plastic Small Outline, Body 10.3 x 7.5 mm, Pitch 1.27 mm; Supplier 1: Digi-Key; Supplier Part Number 1: SI8902B-A01-GSR-ND; Supplier 2: Mouser; Supplier Part Number 2: 634-SI8902B-A01GSR; Packing: Tape and Reel; Mounting Technology: Surface Mount; Code_JEDEC: MS-013; ComponentLink1Description: Manufacturer URL; ComponentLink1URL: http://www.silabs.com/; ComponentLink2Description: Datasheet; ComponentLink2URL: http://www.silabs.com/Support Documents/TechnicalDocs/Si8900-1-2.pdf; ComponentLink3Description: Package Specification; ComponentLink3URL: https://www.silabs.com/Support%20Documents/TechnicalDocs/Si823x.pdf
footprint SLAB-SOIC-16-WB_N (SOIC, 16-Leads, Body 10.3x7.5mm, Pitch 1.27mm, IPC Medium Density)
footprint SLAB-SOIC-16-WB_L (SOIC, 16-Leads, Body 10.3x7.5mm, Pitch 1.27mm, IPC High Density)
footprint SLAB-SOIC-16-WB_M (SOIC, 16-Leads, Body 10.3x7.5mm, Pitch 1.27mm, IPC Low Density)
pins: 1 VDDA (power) "Input side VDD bias voltage (typically 3.3 V)", 2 ~{RST} (in) "Active low reset.", 3 NC "No Connection.", 4 VREF (in) "External voltage reference input.", 5 AIN0 (in) "ADC analog input channel 0.", 6 AIN1 (in) "ADC analog input channel 1.", 7 AIN2 (in) "ADC analog input channel 2.", 8 GNDA (power) "Input side ground", 9 GNDB (power) "Output side ground", 10 VDDB (power) "Output side VDD bias voltage (2.7 V to 5.5 V)", 11 ~{EN} (in) "SPI Port Enable.", 12 SDI (in) "SPI port Serial data in.", 13 SCLK (in) "SPI port unidirectional serial clock input.", 14 SDO (hiz) "SPI port Serial data out (SDO)", 15 NC "No Connection.", 16 VDDB (power) "Output side VDD bias voltage (2.7 V to 5.5 V)."

## Si8902D-A01-GS
designator U?
Isolated Monitoring ADC, 10 A Full Scale Current, -40 to 85 degC, 16-pin SOIC; Manufacturer: Silicon Labs; PartNumber: Si8902D-A01-GS; Full Scale Current: 10 A; Initial Accuracy: 0.1%; Isolation Rating: 5 kV rms; Output Mode: SPI; Sub-Family: Current Sensors; DatasheetVersion: Rev. 1.1; PackageReference: SOIC-16-WB; PackageDescription: 16-Pin Wide Body Plastic Small Outline, Body 10.3 x 7.5 mm, Pitch 1.27 mm; Supplier 1: Digi-Key; Supplier Part Number 1: 336-2198-5-ND; Supplier 2: Mouser; Supplier Part Number 2: 634-SI8902D-A01-GS; Mounting Technology: Surface Mount; Code_JEDEC: MS-013; ComponentLink1Description: Manufacturer URL; ComponentLink1URL: http://www.silabs.com/; ComponentLink2Description: Datasheet; ComponentLink2URL: http://www.silabs.com/Support Documents/TechnicalDocs/Si8900-1-2.pdf; ComponentLink3Description: Package Specification; ComponentLink3URL: https://www.silabs.com/Support%20Documents/TechnicalDocs/Si823x.pdf
footprint SLAB-SOIC-16-WB_N (SOIC, 16-Leads, Body 10.3x7.5mm, Pitch 1.27mm, IPC Medium Density)
footprint SLAB-SOIC-16-WB_L (SOIC, 16-Leads, Body 10.3x7.5mm, Pitch 1.27mm, IPC High Density)
footprint SLAB-SOIC-16-WB_M (SOIC, 16-Leads, Body 10.3x7.5mm, Pitch 1.27mm, IPC Low Density)
pins: 1 VDDA (power) "Input side VDD bias voltage (typically 3.3 V)", 2 ~{RST} (in) "Active low reset.", 3 NC "No Connection.", 4 VREF (in) "External voltage reference input.", 5 AIN0 (in) "ADC analog input channel 0.", 6 AIN1 (in) "ADC analog input channel 1.", 7 AIN2 (in) "ADC analog input channel 2.", 8 GNDA (power) "Input side ground", 9 GNDB (power) "Output side ground", 10 VDDB (power) "Output side VDD bias voltage (2.7 V to 5.5 V)", 11 ~{EN} (in) "SPI Port Enable.", 12 SDI (in) "SPI port Serial data in.", 13 SCLK (in) "SPI port unidirectional serial clock input.", 14 SDO (hiz) "SPI port Serial data out (SDO)", 15 NC "No Connection.", 16 VDDB (power) "Output side VDD bias voltage (2.7 V to 5.5 V)."

## Si8902D-A01-GSR
designator U?
Isolated Monitoring ADC, 10 A Full Scale Current, -40 to 85 degC, 16-pin SOIC, Tape and Reel; Manufacturer: Silicon Labs; PartNumber: Si8902D-A01-GSR; Full Scale Current: 10 A; Initial Accuracy: 0.1%; Isolation Rating: 5 kV rms; Output Mode: SPI; Sub-Family: Current Sensors; DatasheetVersion: Rev. 1.1; PackageReference: SOIC-16-WB; PackageDescription: 16-Pin Wide Body Plastic Small Outline, Body 10.3 x 7.5 mm, Pitch 1.27 mm; Supplier 1: Digi-Key; Supplier Part Number 1: SI8902D-A01-GSR-ND; Supplier 2: Mouser; Supplier Part Number 2: 634-SI8902D-A01-GSR; Packing: Tape and Reel; Mounting Technology: Surface Mount; Code_JEDEC: MS-013; ComponentLink1Description: Manufacturer URL; ComponentLink1URL: http://www.silabs.com/; ComponentLink2Description: Datasheet; ComponentLink2URL: http://www.silabs.com/Support Documents/TechnicalDocs/Si8900-1-2.pdf; ComponentLink3Description: Package Specification; ComponentLink3URL: https://www.silabs.com/Support%20Documents/TechnicalDocs/Si823x.pdf
footprint SLAB-SOIC-16-WB_N (SOIC, 16-Leads, Body 10.3x7.5mm, Pitch 1.27mm, IPC Medium Density)
footprint SLAB-SOIC-16-WB_L (SOIC, 16-Leads, Body 10.3x7.5mm, Pitch 1.27mm, IPC High Density)
footprint SLAB-SOIC-16-WB_M (SOIC, 16-Leads, Body 10.3x7.5mm, Pitch 1.27mm, IPC Low Density)
pins: 1 VDDA (power) "Input side VDD bias voltage (typically 3.3 V)", 2 ~{RST} (in) "Active low reset.", 3 NC "No Connection.", 4 VREF (in) "External voltage reference input.", 5 AIN0 (in) "ADC analog input channel 0.", 6 AIN1 (in) "ADC analog input channel 1.", 7 AIN2 (in) "ADC analog input channel 2.", 8 GNDA (power) "Input side ground", 9 GNDB (power) "Output side ground", 10 VDDB (power) "Output side VDD bias voltage (2.7 V to 5.5 V)", 11 ~{EN} (in) "SPI Port Enable.", 12 SDI (in) "SPI port Serial data in.", 13 SCLK (in) "SPI port unidirectional serial clock input.", 14 SDO (hiz) "SPI port Serial data out (SDO)", 15 NC "No Connection.", 16 VDDB (power) "Output side VDD bias voltage (2.7 V to 5.5 V)."